# EAGLE library part LPC236* (library LCP2364,2366,2368)
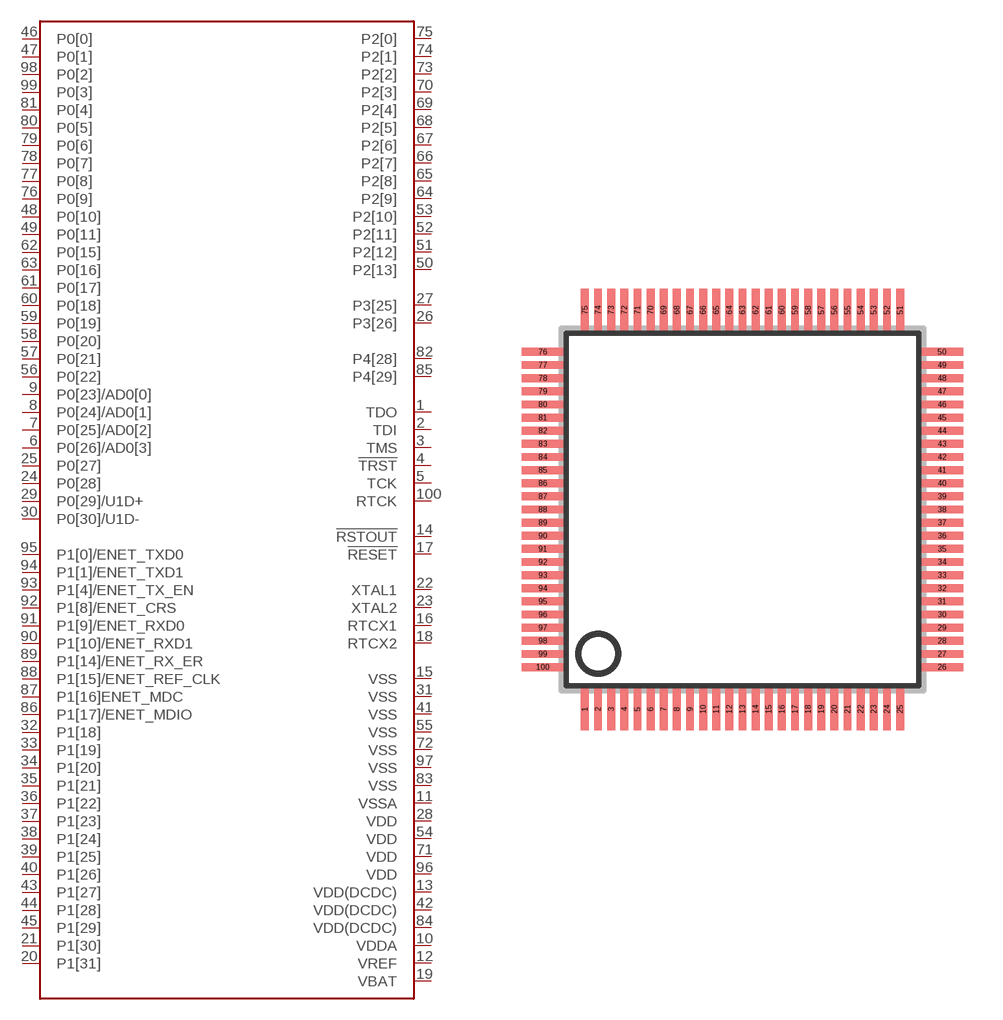
[diagram p0: symbol with the pads of LQFP100-14; footprint LQFP100-14]

Designator prefix -

## LPC236  [LQFP100-14]
1  TDO
2  TDI
3  TMS
4  !TRST
5  TCK
6  P0[26]/AD0[3]
7  P0[25]/AD0[2]
8  P0[24]/AD0[1]
9  P0[23]/AD0[0]
10  VDDA
11  VSSA
12  VREF
13  VDD(DCDC)
14  !RSTOUT
15  VSS
16  RTCX1
17  !RESET
18  RTCX2
19  VBAT
20  P1[31]
21  P1[30]
22  XTAL1
23  XTAL2
24  P0[28]
25  P0[27]
26  P3[26]
27  P3[25]
28  VDD
29  P0[29]/U1D+
30  P0[30]/U1D-
31  VSS
32  P1[18]
33  P1[19]
34  P1[20]
35  P1[21]
36  P1[22]
37  P1[23]
38  P1[24]
39  P1[25]
40  P1[26]
41  VSS
42  VDD(DCDC)
43  P1[27]
44  P1[28]
45  P1[29]
46  P0[0]
47  P0[1]
48  P0[10]
49  P0[11]
50  P2[13]
51  P2[12]
52  P2[11]
53  P2[10]
54  VDD
55  VSS
56  P0[22]
57  P0[21]
58  P0[20]
59  P0[19]
60  P0[18]
61  P0[17]
62  P0[15]
63  P0[16]
64  P2[9]
65  P2[8]
66  P2[7]
67  P2[6]
68  P2[5]
69  P2[4]
70  P2[3]
71  VDD
72  VSS
73  P2[2]
74  P2[1]
75  P2[0]
76  P0[9]
77  P0[8]
78  P0[7]
79  P0[6]
80  P0[5]
81  P0[4]
82  P4[28]
83  VSS
84  VDD(DCDC)
85  P4[29]
86  P1[17]/ENET_MDIO
87  P1[16]ENET_MDC
88  P1[15]/ENET_REF_CLK
89  P1[14]/ENET_RX_ER
90  P1[10]/ENET_RXD1
91  P1[9]/ENET_RXD0
92  P1[8]/ENET_CRS
93  P1[4]/ENET_TX_EN
94  P1[1]/ENET_TXD1
95  P1[0]/ENET_TXD0
96  VDD
97  VSS
98  P0[2]
99  P0[3]
100  RTCK

## Footprint LQFP100-14 (pad centres in mm)
smd 0.3 x 1.6: 1 -6,-7.6; 2 -5.5,-7.6; 3 -5,-7.6; 4 -4.5,-7.6; 5 -4,-7.6; 6 -3.5,-7.6; 7 -3,-7.6; 8 -2.5,-7.6; 9 -2,-7.6; 10 -1.5,-7.6; 11 -1,-7.6; 12 -0.5,-7.6; 13 0,-7.6; 14 0.5,-7.6; 15 1,-7.6; 16 1.5,-7.6; 17 2,-7.6; 18 2.5,-7.6; 19 3,-7.6; 20 3.5,-7.6; 21 4,-7.6; 22 4.5,-7.6; 23 5,-7.6; 24 5.5,-7.6; 25 6,-7.6; 51 6,7.6; 52 5.5,7.6; 53 5,7.6; 54 4.5,7.6; 55 4,7.6; 56 3.5,7.6; 57 3,7.6; 58 2.5,7.6; 59 2,7.6; 60 1.5,7.6; 61 1,7.6; 62 0.5,7.6; 63 0,7.6; 64 -0.5,7.6; 65 -1,7.6; 66 -1.5,7.6; 67 -2,7.6; 68 -2.5,7.6; 69 -3,7.6; 70 -3.5,7.6; 71 -4,7.6; 72 -4.5,7.6; 73 -5,7.6; 74 -5.5,7.6; 75 -6,7.6
smd 1.6 x 0.3: 26 7.6,-6; 27 7.6,-5.5; 28 7.6,-5; 29 7.6,-4.5; 30 7.6,-4; 31 7.6,-3.5; 32 7.6,-3; 33 7.6,-2.5; 34 7.6,-2; 35 7.6,-1.5; 36 7.6,-1; 37 7.6,-0.5; 38 7.6,0; 39 7.6,0.5; 40 7.6,1; 41 7.6,1.5; 42 7.6,2; 43 7.6,2.5; 44 7.6,3; 45 7.6,3.5; 46 7.6,4; 47 7.6,4.5; 48 7.6,5; 49 7.6,5.5; 50 7.6,6; 76 -7.6,6; 77 -7.6,5.5; 78 -7.6,5; 79 -7.6,4.5; 80 -7.6,4; 81 -7.6,3.5; 82 -7.6,3; 83 -7.6,2.5; 84 -7.6,2; 85 -7.6,1.5; 86 -7.6,1; 87 -7.6,0.5; 88 -7.6,0; 89 -7.6,-0.5; 90 -7.6,-1; 91 -7.6,-1.5; 92 -7.6,-2; 93 -7.6,-2.5; 94 -7.6,-3; 95 -7.6,-3.5; 96 -7.6,-4; 97 -7.6,-4.5; 98 -7.6,-5; 99 -7.6,-5.5; 100 -7.6,-6